# Altium footprint library environment.PcbLib: 46 footprints (part 3 of 3)
Each footprint in its own frame and in the unit in brackets; x right, y up, seen from the top. Pads: shape width x height; smd on the part's side, far side on the other; paste and mask are expansions set on the pad; w line width, h text height; cw(c..) or ccw(c..) is an arc to the next point about the centre after c.
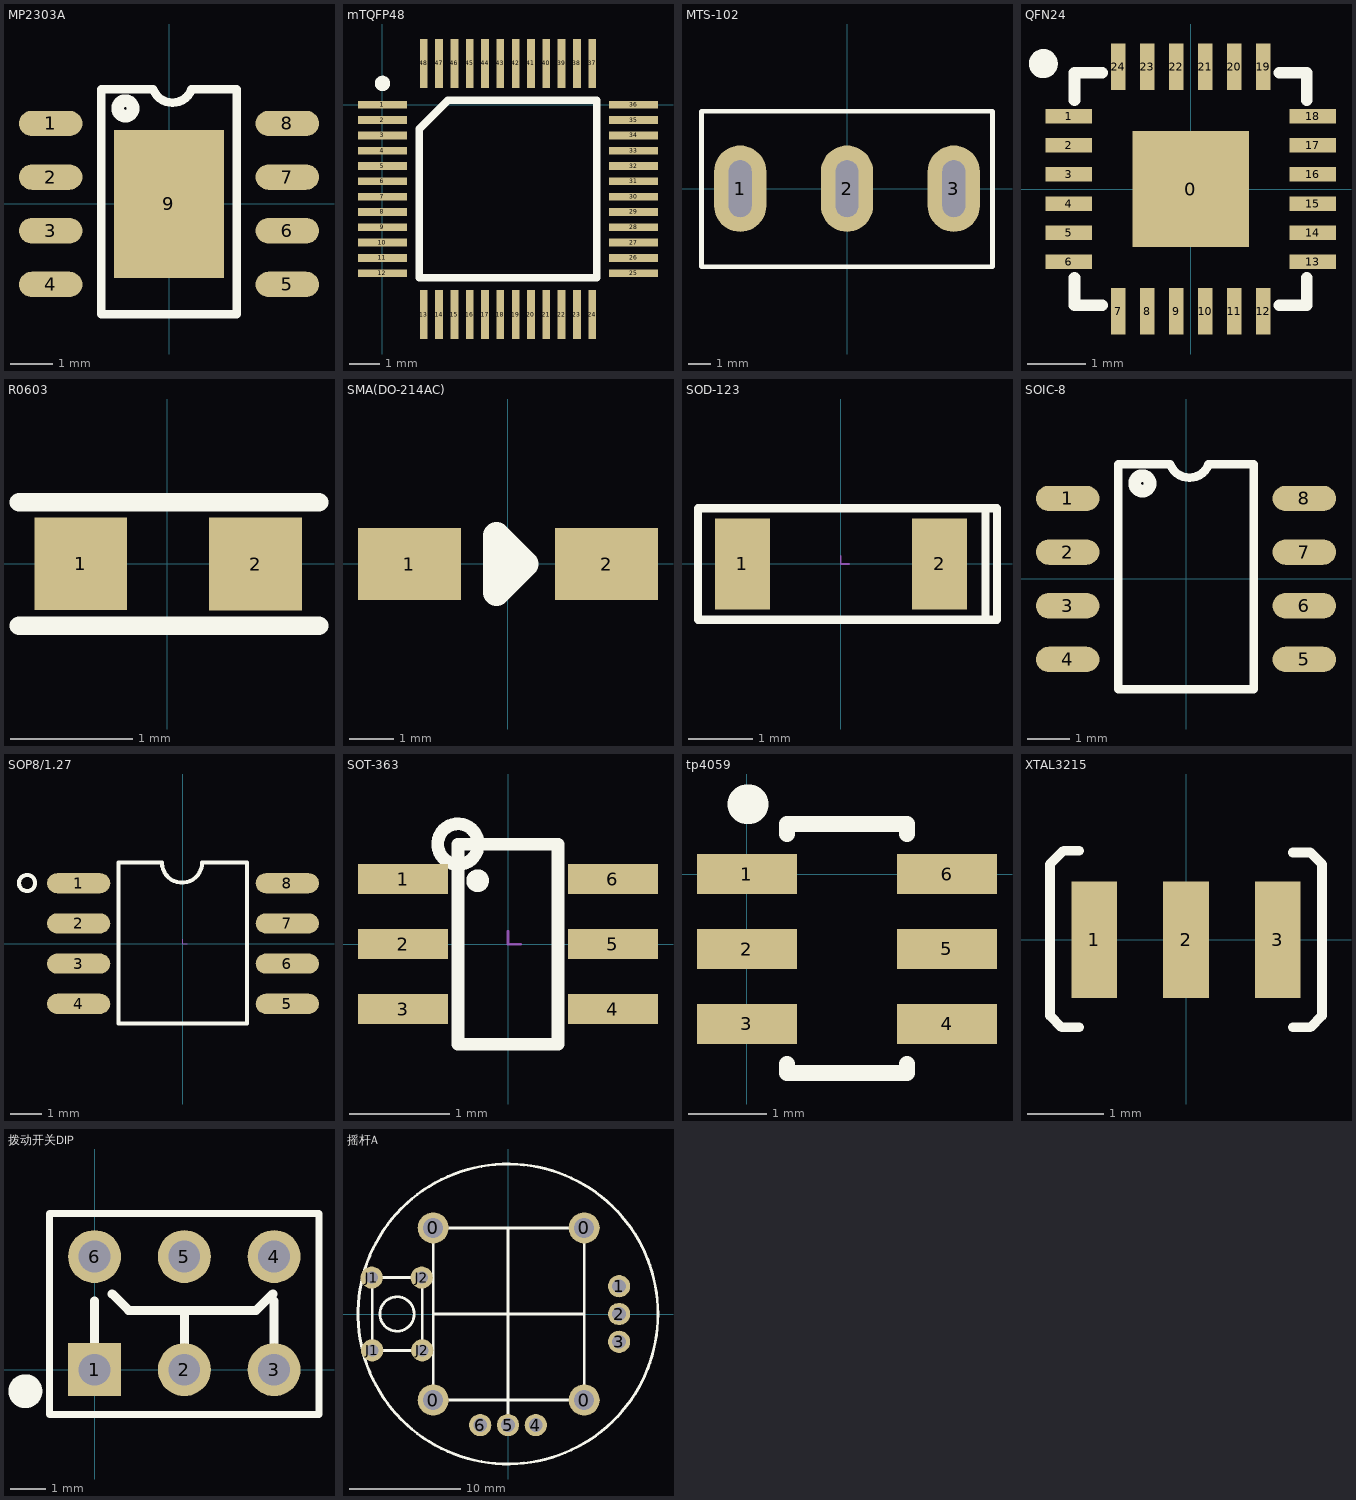
[diagram p2: the footprints below, top view; thin cyan lines are the x and y axes]

## MP2303A [mm]
pads (9):
  oval 1.5x0.6 smd: 1(-2.8,1.905) 2(-2.8,0.635) 3(-2.8,-0.635) 4(-2.8,-1.905) 5(2.8,-1.905) 6(2.8,-0.635) 7(2.8,0.635) 8(2.8,1.905)
  rect 2.6x3.5 smd: 9(0,0)
Top Overlay:
  circle w0.3: c-1.033,2.26 r0.183
  lines w0.203: -0.371,2.705 ccw(c0.08,2.878) 0.533,2.71 1.6,2.71 1.6,-2.61 -1.6,-2.61 -1.6,2.71 -0.371,2.71

## mTQFP48 [mm]
pads (48):
  rect 1.6x0.254 smd: 1(0,0) 2(0,-0.5) 3(0,-1) 4(0,-1.5) 5(0,-2) 6(0,-2.5) 7(0,-3) 8(0,-3.5) 9(0,-4) 10(0,-4.5) 11(0,-5) 12(0,-5.5) 25(8.2,-5.5) 26(8.2,-5) 27(8.2,-4.5) 28(8.2,-4) 29(8.2,-3.5) 30(8.2,-3) 31(8.2,-2.5) 32(8.2,-2) 33(8.2,-1.5) 34(8.2,-1) 35(8.2,-0.5) 36(8.2,0)
  rect 0.254x1.6 smd: 13(1.35,-6.85) 14(1.85,-6.85) 15(2.35,-6.85) 16(2.85,-6.85) 17(3.35,-6.85) 18(3.85,-6.85) 19(4.35,-6.85) 20(4.85,-6.85) 21(5.35,-6.85) 22(5.85,-6.85) 23(6.35,-6.85) 24(6.85,-6.85) 37(6.85,1.35) 38(6.35,1.35) 39(5.85,1.35) 40(5.35,1.35) 41(4.85,1.35) 42(4.35,1.35) 43(3.85,1.35) 44(3.35,1.35) 45(2.85,1.35) 46(2.35,1.35) 47(1.85,1.35) 48(1.35,1.35)
Top Overlay:
  circle w0.25: c0,0.7 r0.125
  lines w0.2: 1.2,-5.65 7,-5.65 7,0.15
  lines w0.254: 1.2,-0.792 2.142,0.15 ; 1.2,-0.792 1.2,-5.65 7,-5.65 7,0.15 2.826,0.15 2.142,0.15 ; 1.2,-0.792 2.142,0.15

## MTS-102 [mm]
pads (3):
  oval 2.3x3.8 hole 1 slot 2.5 at 90 deg: 1(-4.7,0) 2(0,0) 3(4.7,0)
Top Overlay:
  lines w0.203: -6.4,-3.429 -6.4,3.4 6.4,3.4 6.4,-3.429 -6.4,-3.429
Mechanical 2:
  lines w0.025: 0,0.127 0,0 0.127,0

## QFN24 [mm] "QFN, 24-Leads, Body 4.0x4.0mm (max), Pitch 0.50mm, IPC Medium Density"
height 0.9
pads (25):
  rect 2x2 smd: 0(0,0)
  rect 0.8x0.25 smd: 1(-2.101,1.25) 2(-2.101,0.75) 3(-2.101,0.25) 4(-2.101,-0.25) 5(-2.101,-0.75) 6(-2.101,-1.25) 13(2.101,-1.25) 14(2.101,-0.75) 15(2.101,-0.25) 16(2.101,0.25) 17(2.101,0.75) 18(2.101,1.25)
  rect 0.25x0.8 smd: 7(-1.25,-2.101) 8(-0.75,-2.101) 9(-0.25,-2.101) 10(0.25,-2.101) 11(0.75,-2.101) 12(1.25,-2.101) 19(1.25,2.101) 20(0.75,2.101) 21(0.25,2.101) 22(-0.25,2.101) 23(-0.75,2.101) 24(-1.25,2.101)
Top Overlay:
  circle w0.25: c-2.538,2.159 r0.125
  lines w0.2: -2,-1.525 -2,-2 -1.525,-2 ; -2,1.525 -2,2 -1.525,2 ; 1.525,-2 2,-2 2,-1.525 ; 1.525,2 2,2 2,1.525

## R0603 [mil]
pads (2):
  rect 30x30 smd: 1(-28,0) 2(28.5,-0.06)
Top Overlay:
  lines w6: -48,-20.06 -11,-20.06 49,-20.06 ; -48,19.94 12,19.94 49,19.94

## SMA(DO-214AC) [mm] "可用：ss34"
pads (2):
  rect 2.3x1.6 smd: 1(-2.2,0) 2(2.2,0)
Top Overlay:
  lines w0.6: -0.254,-0.635 -0.254,0.635 0.381,0 -0.254,-0.635

## SOD-123 [mm]
pads (2):
  rect 0.85x1.4 smd: 1(-1.525,0) 2(1.525,0)
Top Overlay:
  lines w0.127: 2.236,-0.864 2.236,0.838 ; -2.21,-0.864 2.414,-0.864 2.414,0.864 -2.21,0.864 -2.21,-0.864
Mechanical 2:
  lines w0.025: 0,0.127 0,0 0.127,0

## SOIC-8 [mm] "a4950、mp2303a"
pads (8):
  oval 1.5x0.6 smd: 1(-2.8,1.905) 2(-2.8,0.635) 3(-2.8,-0.635) 4(-2.8,-1.905) 5(2.8,-1.905) 6(2.8,-0.635) 7(2.8,0.635) 8(2.8,1.905)
Top Overlay:
  circle w0.3: c-1.033,2.26 r0.183
  lines w0.203: -0.371,2.705 ccw(c0.08,2.878) 0.533,2.71 1.6,2.71 1.6,-2.61 -1.6,-2.61 -1.6,2.71 -0.371,2.71

## SOP8/1.27 [mm]
pads (8):
  oval 2x0.635 smd: 1(-3.298,1.905) 2(-3.298,0.635) 3(-3.298,-0.635) 4(-3.298,-1.905) 5(3.298,-1.905) 6(3.298,-0.635) 7(3.298,0.635) 8(3.298,1.905)
Top Overlay:
  circle w0.127: c-4.928,1.91 r0.254
  lines w0.127: -2.036,-2.525 2.028,-2.525 2.028,2.555 0.606,2.555 cw(c-0.029,2.555) -0.664,2.555 -2.036,2.555 -2.036,-2.525
Mechanical 2:
  lines w0.025: 0,0.127 0,0 0.127,0

## SOT-363 [mm]
pads (6):
  rect 0.9x0.3 smd: 1(-1.05,0.65) 2(-1.05,0) 3(-1.05,-0.65) 4(1.05,-0.65) 5(1.05,0) 6(1.05,0.65)
Top Overlay:
  circle w0.127: c-0.304,0.635 r0.05
  circle w0.127: c-0.5,1 r0.203
  lines w0.127: -0.5,-1 -0.5,1 0.5,1 0.5,-1 -0.5,-1
Mechanical 2:
  lines w0.025: 0,0.127 0,0 0.127,0

## tp4059 [mil]
pads (6):
  rect 50x20 smd: 1(0,0) 2(0,-37.4) 3(0,-74.8) 4(100,-74.8) 5(100,-37.4) 6(100,0)
Top Overlay:
  lines w8: 20,-95 20,-99.32 80,-99.32 80,-95 ; 20,20 20,25 80,25 80,20
  lines w19.68: 0,35 1,35

## XTAL3215 [mm]
height 1
pads (3):
  rect 0.6x1.524 smd: 1(-1.2,0) 2(0,0) 3(1.2,0)
Top Overlay:
  lines w0.127: -1.397,-1.143 -1.626,-1.143 -1.778,-0.991 -1.778,0.991 -1.6,1.168 -1.397,1.168 ; 1.397,-1.143 1.626,-1.143 1.778,-0.991 1.778,0.991 1.626,1.143 1.397,1.143

## 拨动开关DIP [mm]
pads (6):
  rect 1.5x1.5 hole 0.9: 1(0,0)
  round 1.5 hole 0.9: 2(2.54,0) 3(5.08,0) 4(5.08,3.2) 5(2.54,3.2) 6(0,3.2)
Top Overlay:
  circle w0.6: c-1.958,-0.61 r0.18
  lines w0.2: 1.482,-1.27 6.35,-1.27 ; 6.35,-1.27 6.35,4.42 -1.27,4.42 -1.27,-1.27 6.35,-1.27
  lines w0.254: 0,0 0,1.948 ; 0.495,2.146 0.965,1.676 4.572,1.676 5.042,2.146 ; 2.54,0 2.54,1.676 ; 5.08,0 5.08,1.948

## 摇杆A [mm]
pads (14):
  round 2.8 hole 1.8: 0(-6.731,-7.747) 0(-6.731,7.753) 0(6.858,-7.747) 0(6.858,7.753)
  round 2 hole 1.25: 1(10,2.5) 2(10,0) 3(10,-2.5) 4(2.5,-10) 5(0,-10) 6(-2.5,-10)
  round 2 hole 1.1: J1(-12.268,3.277) J1(-12.222,-3.274) J2(-7.768,3.277) J2(-7.722,-3.274)
Top Overlay:
  circle w0.254: c0,0 r13.5
  circle w0.254: c-9.982,0 r1.547
  lines w0.254: -12.268,3.277 -7.768,3.277 -7.722,3.23 -7.722,-3.274 -12.222,-3.274 -12.222,3.23 ; -6.731,0 0,0 ; 0,-10 0,0 ; 0,7.753 0,0 ; 6.769,-7.747 -6.731,-7.747 -6.731,7.753 6.769,7.753 ; 6.858,-7.747 6.858,7.753 ; 6.858,0 0,0